# Altium footprint library LPC17xx_System_Pcb_AD.PcbLib: 25 footprints (part 2 of 2)
Each footprint in its own frame and in the unit in brackets; x right, y up, seen from the top. Pads: shape width x height; smd on the part's side, far side on the other; paste and mask are expansions set on the pad; w line width, h text height; cw(c..) or ccw(c..) is an arc to the next point about the centre after c.
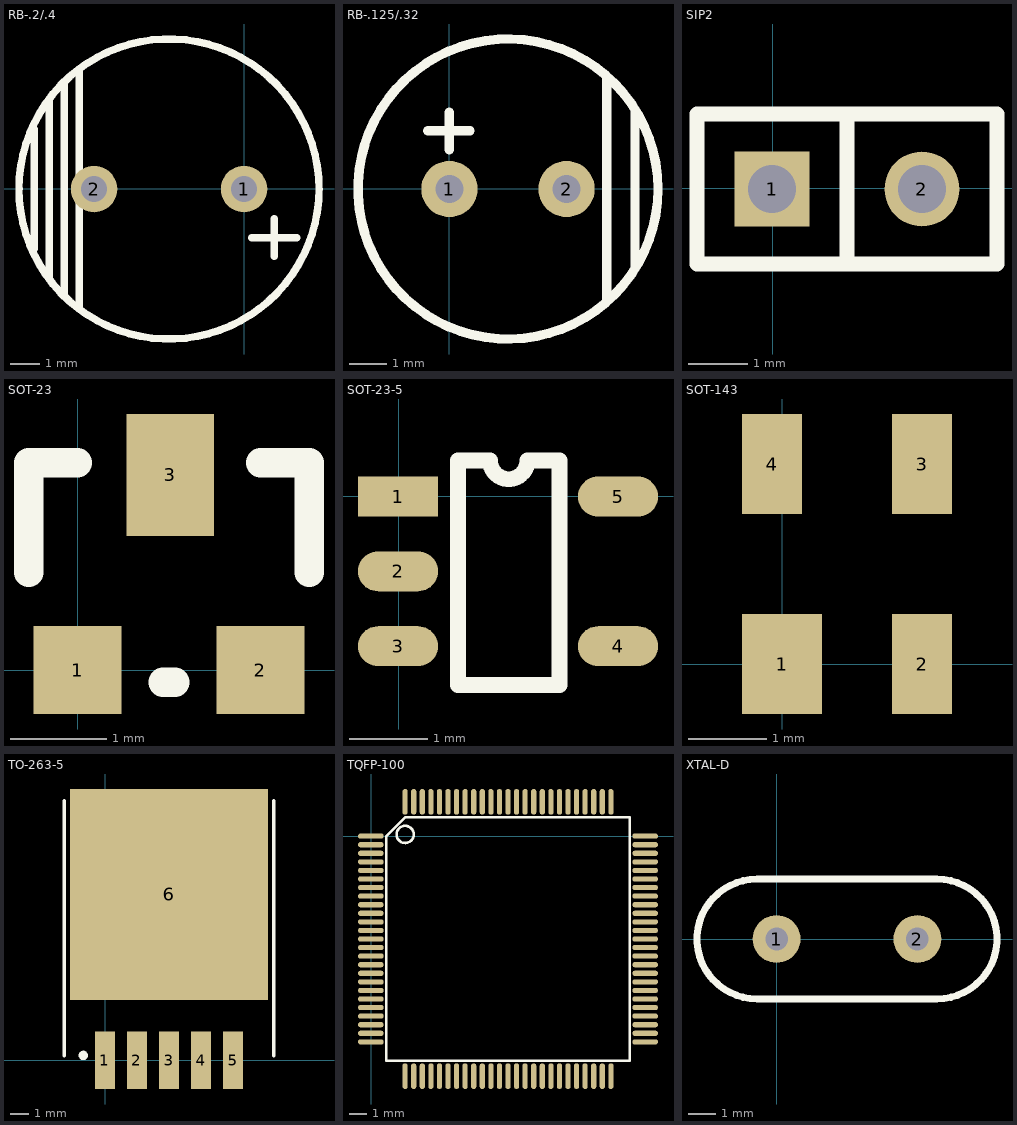
[diagram p1: the footprints below, top view; thin cyan lines are the x and y axes]

## RB-.2/.4 [mil]
pads (2):
  round 62 hole 35: 1(-0.4,-0.37) 2(-200.4,-0.37)
TopOverlay:
  circle w10: c-100.4,-0.37 r200
  lines w10: -280.4,-80.37 -280.4,79.63 ; -260.4,-120.37 -260.4,119.63 ; -240.4,-140.37 -240.4,139.63 ; -220.4,-160.37 -220.4,159.63 ; 9.6,-65.37 69.6,-65.37 ; 39.6,-90.37 39.6,-40.37

## RB-.125/.32 [mil]
pads (2):
  round 60 hole 30: 1(0.1,-0.13) 2(125.1,-0.13)
TopOverlay:
  circle w10: c62.6,-0.13 r160
  lines w10: -22.9,61.87 22.1,61.87 ; 0.1,41.87 0.1,81.87 ; 168.1,-119.13 168.1,118.87 ; 198.1,-83.13 198.1,81.87

## SIP2 [mil]
pads (2):
  rect 50x50 hole 32: 1(-0.4,-0.45)
  round 50 hole 32: 2(99.6,-0.45)
TopOverlay:
  lines w10: 49.6,-50.45 49.6,49.55 ; -50.4,-50.45 149.6,-50.45 149.6,49.55 -50.4,49.55 -50.4,-50.45

## SOT-23 [mil]
pads (3):
  rect 36x36 smd: 1(0,0) 2(75,0)
  rect 36x50 smd: 3(38,80)
TopOverlay:
  lines w12: -20,40 -20,85 0,85 ; 35,-5 40,-5 ; 75,85 95,85 95,40

## SOT-23-5 [mil]
pads (5):
  rect 40x20 smd: 1(-0.4,-0.26)
  oval 40x20 smd: 2(-0.4,-37.67) 3(-0.4,-75.07) 4(109.6,-75.07) 5(109.6,-0.26)
TopOverlay:
  lines w7.87: 29.6,17.74 29.6,-94.47 80.31,-94.47 80.31,17.74 ; 45.6,17.74 ccw(c54.95,17.74) 64.31,17.74
  lines w8: 29.6,17.74 45.6,17.74 ; 64.31,17.74 80.31,17.74

## SOT-143 [mil]
pads (4):
  rect 40x50 smd: 1(0,0)
  rect 30x50 smd: 2(70,0) 3(70,100) 4(-5,100)

## TO-263-5 [mil]
pads (6):
  rect 42x120 smd: 1(-0.4,-0.28) 2(66.53,-0.28) 3(133.46,-0.28) 4(200.39,-0.28) 5(267.32,-0.28)
  rect 414x440 smd: 6(133.46,345.72)
TopOverlay:
  circle w9.84: c-45.32,9.72 r4.92
  lines w7.87: -85.04,9.72 -85.04,541.21 ; 351.97,9.72 351.97,541.21

## TQFP-100 [mm]
pads (100):
  oval 1.5x0.3 smd: 1(-0.01,0.01) 2(-0.01,-0.49) 3(-0.01,-0.99) 4(-0.01,-1.49) 5(-0.01,-1.99) 6(-0.01,-2.49) 7(-0.01,-2.99) 8(-0.01,-3.49) 9(-0.01,-3.99) 10(-0.01,-4.49) 11(-0.01,-4.99) 12(-0.01,-5.49) 13(-0.01,-5.99) 14(-0.01,-6.49) 15(-0.01,-6.99) 16(-0.01,-7.49) 17(-0.01,-7.99) 18(-0.01,-8.49) 19(-0.01,-8.99) 20(-0.01,-9.49) 21(-0.01,-9.99) 22(-0.01,-10.49) 23(-0.01,-10.99) 24(-0.01,-11.49) 25(-0.01,-11.99) 51(15.99,-11.99) 52(15.99,-11.49) 53(15.99,-10.99) 54(15.99,-10.49) 55(15.99,-9.99) 56(15.99,-9.49) 57(15.99,-8.99) 58(15.99,-8.49) 59(15.99,-7.99) 60(15.99,-7.49) 61(15.99,-6.99) 62(15.99,-6.49) 63(15.99,-5.99) 64(15.99,-5.49) 65(15.99,-4.99) 66(15.99,-4.49) 67(15.99,-3.99) 68(15.99,-3.49) 69(15.99,-2.99) 70(15.99,-2.49) 71(15.99,-1.99) 72(15.99,-1.49) 73(15.99,-0.99) 74(15.99,-0.49) 75(15.99,0.01)
  oval 0.3x1.5 smd: 26(1.99,-13.99) 27(2.49,-13.99) 28(2.99,-13.99) 29(3.49,-13.99) 30(3.99,-13.99) 31(4.49,-13.99) 32(4.99,-13.99) 33(5.49,-13.99) 34(5.99,-13.99) 35(6.49,-13.99) 36(6.99,-13.99) 37(7.49,-13.99) 38(7.99,-13.99) 39(8.49,-13.99) 40(8.99,-13.99) 41(9.49,-13.99) 42(9.99,-13.99) 43(10.49,-13.99) 44(10.99,-13.99) 45(11.49,-13.99) 46(11.99,-13.99) 47(12.49,-13.99) 48(12.99,-13.99) 49(13.49,-13.99) 50(13.99,-13.99) 76(13.99,2.01) 77(13.49,2.01) 78(12.99,2.01) 79(12.49,2.01) 80(11.99,2.01) 81(11.49,2.01) 82(10.99,2.01) 83(10.49,2.01) 84(9.99,2.01) 85(9.49,2.01) 86(8.99,2.01) 87(8.49,2.01) 88(7.99,2.01) 89(7.49,2.01) 90(6.99,2.01) 91(6.49,2.01) 92(5.99,2.01) 93(5.49,2.01) 94(4.99,2.01) 95(4.49,2.01) 96(3.99,2.01) 97(3.49,2.01) 98(2.99,2.01) 99(2.49,2.01) 100(1.99,2.01)
TopOverlay:
  circle w0.152: c1.99,0.11 r0.5
  lines w0.152: 0.89,-13.09 0.89,0.01 1.99,1.11 15.09,1.11 15.09,-13.09 0.89,-13.09

## XTAL-D [mil]
pads (2):
  round 68 hole 32: 1(-0.39,0.39) 2(199.61,0.39)
TopOverlay:
  lines w10: -28.39,-84.62 cw(c-28.39,0.39) -28.39,85.4 227.61,85.4 cw(c227.61,0.39) 227.61,-84.62 -28.39,-84.62